# Altium footprint library SOT230P700X180-4N.PcbLib: 1 footprints
Each footprint in its own frame and in the unit in brackets; x right, y up, seen from the top. Pads: shape width x height; smd on the part's side, far side on the other; paste and mask are expansions set on the pad; w line width, h text height; cw(c..) or ccw(c..) is an arc to the next point about the centre after c.
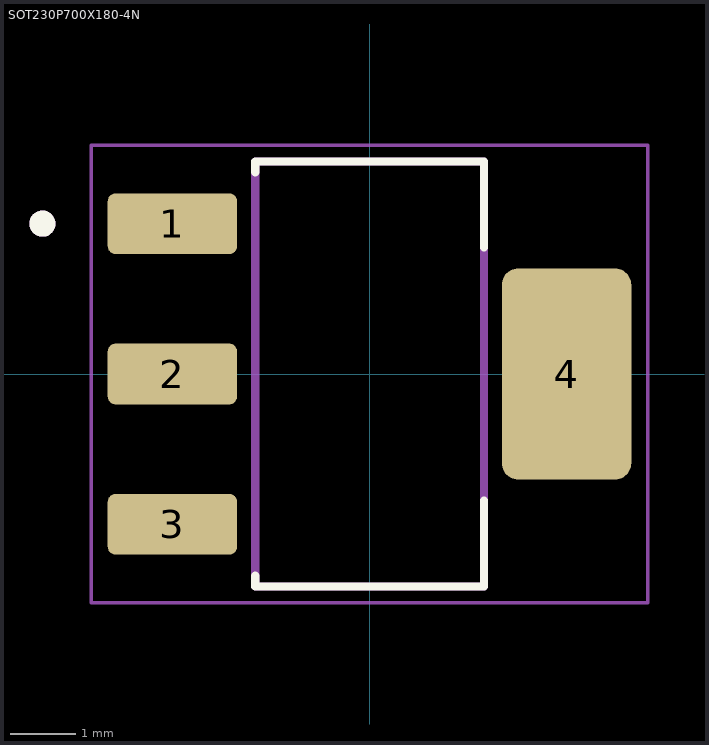
[diagram p0: the footprint, top view; thin cyan lines are the x and y axes]

## SOT230P700X180-4N [mm]
height 1.8
pads (4):
  rrect25% 1.98x0.93 smd: 1(-3.015,2.3) 2(-3.015,0) 3(-3.015,-2.3)
  rrect25% 1.98x3.23 smd: 4(3.015,0)
Top Overlay:
  circle w0.2: c-5.005,2.3 r0.1
  lines w0.127: -1.75,-3.085 -1.75,-3.25 1.75,-3.25 1.75,-1.935 ; -1.75,3.085 -1.75,3.25 1.75,3.25 1.75,1.935
Mechanical 13:
  circle w0.2: c-5.005,2.3 r0.1
  lines w0.127: -1.75,-3.25 -1.75,3.25 1.75,3.25 1.75,-3.25 -1.75,-3.25
Mechanical 15:
  lines w0.05: -4.255,-3.5 -4.255,3.5 4.255,3.5 4.255,-3.5 -4.255,-3.5
3D body "step_temp.STEP": height 1.8, standoff 0, extent -3.499,-3.25 3.499,3.25